# Altium integrated library 67997-410HLF.IntLib: 1 symbol
Pins are listed as number, name and electrical type; pins without a type are passive.

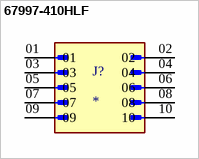
[diagram p0: symbol 67997-410HLF]

## 67997-410HLF
designator J?
BergStikÂ®, Board to Board connector, Unshrouded vertical header, Through Hole, Double Row, 10 Positions, 2.54 mm (0.100in) Pitch; MP: 67997-410HLF; MF: Amphenol ICC; Value: *; Package: None; SnapEDA_Link: https://www.snapeda.com/parts/67997-410HLF/Amphenol+FCI/view-part/?ref=snap; Check_prices: https://www.snapeda.com/parts/67997-410HLF/Amphenol+FCI/view-part/?ref=eda; Digi-Key_Part_Number: 609-3243-ND; Purchase-URL: https://pricing.snapeda.com/search/part/67997-410HLF/?ref=eda
footprint AMPHENOL_67997-410HLF
pins: 01, 02, 03, 04, 05, 06, 07, 08, 09, 10